# Altium footprint library SD.PcbLib: 2 footprints
Each footprint in its own frame and in the unit in brackets; x right, y up, seen from the top. Pads: shape width x height; smd on the part's side, far side on the other; paste and mask are expansions set on the pad; w line width, h text height; cw(c..) or ccw(c..) is an arc to the next point about the centre after c.
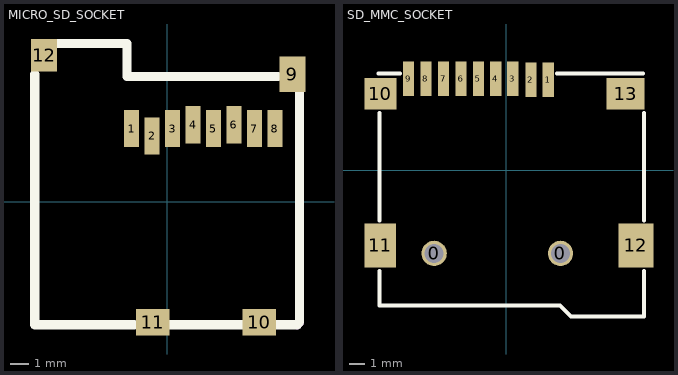
[diagram p0: the footprints below, top view; thin cyan lines are the x and y axes]

## MICRO_SD_SOCKET [mm]
pads (12):
  rect 0.8x2 smd: 1(-1.905,3.937) 2(-0.805,3.537) 3(0.295,3.937) 4(1.395,4.137) 5(2.495,3.937) 6(3.595,4.137) 7(4.695,3.937) 8(5.795,3.937)
  rect 1.4x1.9 smd: 9(6.738,6.855)
  rect 1.8x1.4 smd: 10(4.953,-6.477) 11(-0.762,-6.477)
  rect 1.4x1.75 smd: 12(-6.604,7.874)
Top Overlay:
  lines w0.5: -7.105,6.855 -7.105,-6.607 -1.771,-6.607 ; -5.835,8.506 -2.152,8.506 -2.152,6.728 5.976,6.728 ; 0.134,-6.607 4.071,-6.607 ; 5.849,-6.607 6.992,-6.607 ; 7.119,-6.48 7.119,5.839
Mechanical 1:
  lines w0.5: 6.992,-6.607 7.119,-6.48

## SD_MMC_SOCKET [mm]
pads (15):
  round 1.6 hole 1.2: 0(-4.575,-5.275) 0(3.425,-5.275)
  rect 0.7x2.2 smd: 1(2.65,5.725) 2(1.55,5.725) 3(0.4,5.775) 4(-0.675,5.775) 5(-1.775,5.775) 6(-2.875,5.775) 7(-3.975,5.775) 8(-5.1,5.775) 9(-6.2,5.775)
  rect 2x2 smd: 10(-7.975,4.825)
  rect 2x2.8 smd: 11(-8,-4.775)
  rect 2.2x2.8 smd: 12(8.2,-4.775)
  rect 2.4x2 smd: 13(7.55,4.825)
Top Overlay:
  lines w0.254: -8.1,6.1 -6.725,6.1 ; -8.05,-6.4 -8.05,-8.575 3.4,-8.575 4.1,-9.275 4.85,-9.275 ; -8.05,-3.2 -8.05,3.6 ; 3.2,6.1 8.65,6.1 ; 4.875,-9.275 8.7,-9.275 8.7,-6.4 ; 8.7,-3.2 8.7,3.6